# Altium schematic symbol library Microchip Power Management Battery Management.SchLib: 224 symbols (part 1 of 7)
Pins are listed as number, name and electrical type; pins without a type are passive.

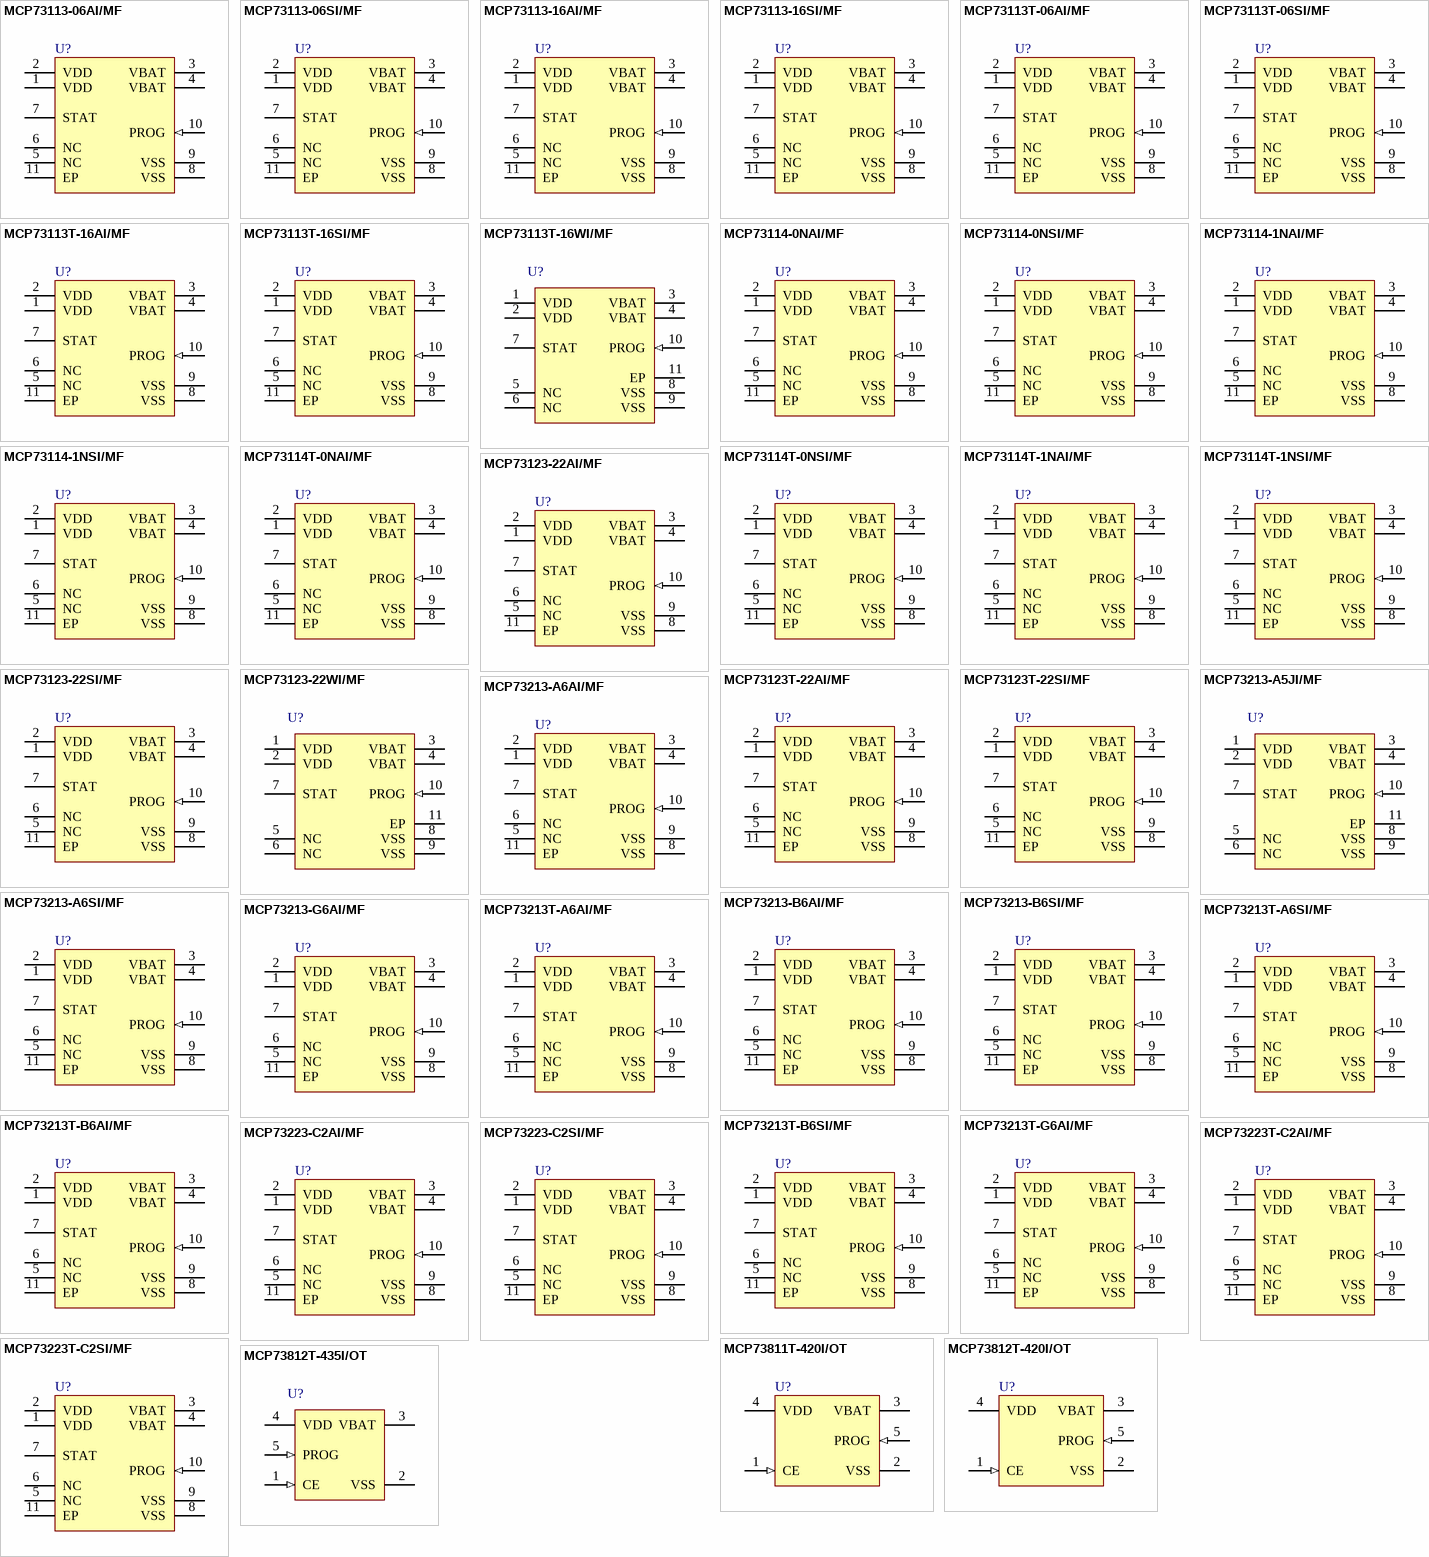
[diagram p0: symbols MCP73113-06AI/MF to MCP73812T-435I/OT]

## MCP73113-06AI/MF
designator U?
Single-Cell Li-Ion / Li-Polymer Battery Charge Management Controller with Input, 6.5V, 10-Pin DFN, Industrial Temperature; Manufacturer: Microchip; PartNumber: MCP73113-06AI/MF; DatasheetVersion: revB, Jul-2009; PackageVersion: revBB, Aug-2009; PackageReference: DFN-MF10; PackageDescription: 10-Lead Plastic Dual Flat, No Lead Package (MF) - 3x3x0.9mm Body [DFN]; Mounting Technology: Surface Mount; ComponentLink1Description: Manufacturer URL; ComponentLink1URL: http://www.microchip.com/; ComponentLink2Description: Datasheet; ComponentLink2URL: http://ww1.microchip.com/downloads/en/DeviceDoc/22183b.pdf; ComponentLink3Description: Package Specification; ComponentLink3URL: http://www.microchip.com/stellent/groups/techpub_sg/documents/packagingspec/en012702.pdf
footprint DFN-MF10 (SON, 10-Leads, Body 3x3mm, Pitch 0.5mm, Microchip Recommended)
pins: 1 VDD (power), 2 VDD (power), 3 VBAT (power), 4 VBAT (power), 5 NC, 6 NC, 7 STAT (oc), 8 VSS (power), 9 VSS (power), 10 PROG (in), 11 EP (power)

## MCP73113-06SI/MF
designator U?
Single-Cell Li-Ion / Li-Polymer Battery Charge Management Controller with Input, 6.5V, 10-Pin DFN, Industrial Temperature; Manufacturer: Microchip; PartNumber: MCP73113-06SI/MF; DatasheetVersion: revB, Jul-2009; PackageVersion: revBB, Aug-2009; PackageReference: DFN-MF10; PackageDescription: 10-Lead Plastic Dual Flat, No Lead Package (MF) - 3x3x0.9mm Body [DFN]; Supplier 1: Digi-Key; Supplier Part Number 1: MCP73113-06SI/MF-ND; Supplier 2: Farnell; Supplier Part Number 2: 1715881; Supplier 3: Newark; Supplier Part Number 3: 11R7579; Supplier 4: Mouser; Supplier Part Number 4: 579-MCP73113-06SI/MF; Mounting Technology: Surface Mount; ComponentLink1Description: Manufacturer URL; ComponentLink1URL: http://www.microchip.com/; ComponentLink2Description: Datasheet; ComponentLink2URL: http://ww1.microchip.com/downloads/en/DeviceDoc/22183b.pdf; ComponentLink3Description: Package Specification; ComponentLink3URL: http://www.microchip.com/stellent/groups/techpub_sg/documents/packagingspec/en012702.pdf
footprint DFN-MF10 (SON, 10-Leads, Body 3x3mm, Pitch 0.5mm, Microchip Recommended)
pins: 1 VDD (power), 2 VDD (power), 3 VBAT (power), 4 VBAT (power), 5 NC, 6 NC, 7 STAT (oc), 8 VSS (power), 9 VSS (power), 10 PROG (in), 11 EP (power)

## MCP73113-16AI/MF
designator U?
Single-Cell Li-Ion / Li-Polymer Battery Charge Management Controller with Input, 6.5V, 10-Pin DFN, Industrial Temperature; Manufacturer: Microchip; PartNumber: MCP73113-16AI/MF; DatasheetVersion: revB, Jul-2009; PackageVersion: revBB, Aug-2009; PackageReference: DFN-MF10; PackageDescription: 10-Lead Plastic Dual Flat, No Lead Package (MF) - 3x3x0.9mm Body [DFN]; Mounting Technology: Surface Mount; ComponentLink1Description: Manufacturer URL; ComponentLink1URL: http://www.microchip.com/; ComponentLink2Description: Datasheet; ComponentLink2URL: http://ww1.microchip.com/downloads/en/DeviceDoc/22183b.pdf; ComponentLink3Description: Package Specification; ComponentLink3URL: http://www.microchip.com/stellent/groups/techpub_sg/documents/packagingspec/en012702.pdf
footprint DFN-MF10 (SON, 10-Leads, Body 3x3mm, Pitch 0.5mm, Microchip Recommended)
pins: 1 VDD (power), 2 VDD (power), 3 VBAT (power), 4 VBAT (power), 5 NC, 6 NC, 7 STAT (oc), 8 VSS (power), 9 VSS (power), 10 PROG (in), 11 EP (power)

## MCP73113-16SI/MF
designator U?
Single-Cell Li-Ion / Li-Polymer Battery Charge Management Controller with Input, 6.5V, 10-Pin DFN, Industrial Temperature; Manufacturer: Microchip; PartNumber: MCP73113-16SI/MF; DatasheetVersion: revB, Jul-2009; PackageVersion: revBB, Aug-2009; PackageReference: DFN-MF10; PackageDescription: 10-Lead Plastic Dual Flat, No Lead Package (MF) - 3x3x0.9mm Body [DFN]; Supplier 1: Digi-Key; Supplier Part Number 1: MCP73113-16SI/MF-ND; Supplier 2: Mouser; Supplier Part Number 2: 579-MCP73113-16SI/MF; Mounting Technology: Surface Mount; ComponentLink1Description: Manufacturer URL; ComponentLink1URL: http://www.microchip.com/; ComponentLink2Description: Datasheet; ComponentLink2URL: http://ww1.microchip.com/downloads/en/DeviceDoc/22183b.pdf; ComponentLink3Description: Package Specification; ComponentLink3URL: http://www.microchip.com/stellent/groups/techpub_sg/documents/packagingspec/en012702.pdf
footprint DFN-MF10 (SON, 10-Leads, Body 3x3mm, Pitch 0.5mm, Microchip Recommended)
pins: 1 VDD (power), 2 VDD (power), 3 VBAT (power), 4 VBAT (power), 5 NC, 6 NC, 7 STAT (oc), 8 VSS (power), 9 VSS (power), 10 PROG (in), 11 EP (power)

## MCP73113T-06AI/MF
designator U?
Single-Cell Li-Ion / Li-Polymer Battery Charge Management Controller with Input, 6.5V, 10-Pin DFN, Industrial Temperature, Tape and Reel; Manufacturer: Microchip; PartNumber: MCP73113T-06AI/MF; DatasheetVersion: revB, Jul-2009; PackageVersion: revBB, Aug-2009; PackageReference: DFN-MF10; PackageDescription: 10-Lead Plastic Dual Flat, No Lead Package (MF) - 3x3x0.9mm Body [DFN]; Mounting Technology: Surface Mount; ComponentLink1Description: Manufacturer URL; ComponentLink1URL: http://www.microchip.com/; ComponentLink2Description: Datasheet; ComponentLink2URL: http://ww1.microchip.com/downloads/en/DeviceDoc/22183b.pdf; ComponentLink3Description: Package Specification; ComponentLink3URL: http://www.microchip.com/stellent/groups/techpub_sg/documents/packagingspec/en012702.pdf
footprint DFN-MF10 (SON, 10-Leads, Body 3x3mm, Pitch 0.5mm, Microchip Recommended)
pins: 1 VDD (power), 2 VDD (power), 3 VBAT (power), 4 VBAT (power), 5 NC, 6 NC, 7 STAT (oc), 8 VSS (power), 9 VSS (power), 10 PROG (in), 11 EP (power)

## MCP73113T-06SI/MF
designator U?
Single-Cell Li-Ion / Li-Polymer Battery Charge Management Controller with Input, 6.5V, 10-Pin DFN, Industrial Temperature, Tape and Reel; Manufacturer: Microchip; PartNumber: MCP73113T-06SI/MF; DatasheetVersion: revB, Jul-2009; PackageVersion: revBB, Aug-2009; PackageReference: DFN-MF10; PackageDescription: 10-Lead Plastic Dual Flat, No Lead Package (MF) - 3x3x0.9mm Body [DFN]; Supplier 1: Digi-Key; Supplier Part Number 1: MCP73113T-06SI/MF-ND; Supplier 2: Mouser; Supplier Part Number 2: 579-MCP73113T-06SIMF; Mounting Technology: Surface Mount; ComponentLink1Description: Manufacturer URL; ComponentLink1URL: http://www.microchip.com/; ComponentLink2Description: Datasheet; ComponentLink2URL: http://ww1.microchip.com/downloads/en/DeviceDoc/22183b.pdf; ComponentLink3Description: Package Specification; ComponentLink3URL: http://www.microchip.com/stellent/groups/techpub_sg/documents/packagingspec/en012702.pdf
footprint DFN-MF10 (SON, 10-Leads, Body 3x3mm, Pitch 0.5mm, Microchip Recommended)
pins: 1 VDD (power), 2 VDD (power), 3 VBAT (power), 4 VBAT (power), 5 NC, 6 NC, 7 STAT (oc), 8 VSS (power), 9 VSS (power), 10 PROG (in), 11 EP (power)

## MCP73113T-16AI/MF
designator U?
Single-Cell Li-Ion / Li-Polymer Battery Charge Management Controller with Input, 6.5V, 10-Pin DFN, Industrial Temperature, Tape and Reel; Manufacturer: Microchip; PartNumber: MCP73113T-16AI/MF; DatasheetVersion: revB, Jul-2009; PackageVersion: revBB, Aug-2009; PackageReference: DFN-MF10; PackageDescription: 10-Lead Plastic Dual Flat, No Lead Package (MF) - 3x3x0.9mm Body [DFN]; Mounting Technology: Surface Mount; ComponentLink1Description: Manufacturer URL; ComponentLink1URL: http://www.microchip.com/; ComponentLink2Description: Datasheet; ComponentLink2URL: http://ww1.microchip.com/downloads/en/DeviceDoc/22183b.pdf; ComponentLink3Description: Package Specification; ComponentLink3URL: http://www.microchip.com/stellent/groups/techpub_sg/documents/packagingspec/en012702.pdf
footprint DFN-MF10 (SON, 10-Leads, Body 3x3mm, Pitch 0.5mm, Microchip Recommended)
pins: 1 VDD (power), 2 VDD (power), 3 VBAT (power), 4 VBAT (power), 5 NC, 6 NC, 7 STAT (oc), 8 VSS (power), 9 VSS (power), 10 PROG (in), 11 EP (power)

## MCP73113T-16SI/MF
designator U?
Single-Cell Li-Ion / Li-Polymer Battery Charge Management Controller with Input, 6.5V, 10-Pin DFN, Industrial Temperature, Tape and Reel; Manufacturer: Microchip; PartNumber: MCP73113T-16SI/MF; DatasheetVersion: revB, Jul-2009; PackageVersion: revBB, Aug-2009; PackageReference: DFN-MF10; PackageDescription: 10-Lead Plastic Dual Flat, No Lead Package (MF) - 3x3x0.9mm Body [DFN]; Supplier 1: Digi-Key; Supplier Part Number 1: MCP73113T-16SI/MF-ND; Supplier 2: Mouser; Supplier Part Number 2: 579-MCP73113T-16SIMF; Mounting Technology: Surface Mount; ComponentLink1Description: Manufacturer URL; ComponentLink1URL: http://www.microchip.com/; ComponentLink2Description: Datasheet; ComponentLink2URL: http://ww1.microchip.com/downloads/en/DeviceDoc/22183b.pdf; ComponentLink3Description: Package Specification; ComponentLink3URL: http://www.microchip.com/stellent/groups/techpub_sg/documents/packagingspec/en012702.pdf
footprint DFN-MF10 (SON, 10-Leads, Body 3x3mm, Pitch 0.5mm, Microchip Recommended)
pins: 1 VDD (power), 2 VDD (power), 3 VBAT (power), 4 VBAT (power), 5 NC, 6 NC, 7 STAT (oc), 8 VSS (power), 9 VSS (power), 10 PROG (in), 11 EP (power)

## MCP73113T-16WI/MF
designator U?
Single-Cell Li-Ion / Li-Polymer Battery Charge Management Controller with Input Overvoltage Protection, 0.5% Voltage Regulation Accuracy, 4 to 16 V Vcc, -40 to 85 degC, 10-pin DFN (MF10), Tape and Reel; Manufacturer: Microchip; PartNumber: MCP73113T-16WI/MF; DatasheetVersion: Rev. C; PackageVersion: C04-063C; PackageReference: DFN-MF10; PackageDescription: 10-Lead Plastic Dual Flat, No Lead Package, 3 x 3 mm Body, 0.5 mm Pitch; Mounting Technology: Surface Mount; ComponentLink1Description: Manufacturer URL; ComponentLink1URL: http://www.microchip.com; ComponentLink2Description: Datasheet; ComponentLink2URL: http://ww1.microchip.com/downloads/en/DeviceDoc/22183c.pdf; ComponentLink3Description: Package Specification; ComponentLink3URL: http://www.microchip.com/stellent/groups/techpub_sg/documents/packagingspec/en012702.pdf; ComponentLink4Description: Product URL; ComponentLink4URL: http://www.microchip.com/MCP73113
footprint MCHP-DFN-MF10_V (SON, 10-Leads, Body 3x3mm, Pitch 0.5mm, Thermal Pad 1.55x2.48mm)
pins: 1 VDD (power) "Battery Management Input Supply", 2 VDD (power) "Battery Management Input Supply", 3 VBAT (power) "Battery Charge Control Output", 4 VBAT (power) "Battery Charge Control Output", 5 NC "No Connection", 6 NC "No Connection", 7 STAT (hiz) "Battery Charge Status Output", 8 VSS (power) "Battery Management 0V Reference", 9 VSS (power) "Battery Management 0V Reference", 10 PROG (in) "Battery Charge Current Regulation Program and Charge Control Enable", 11 EP "Exposed Pad"

## MCP73114-0NAI/MF
designator U?
Single-Cell Li-Ion / Li-Polymer Battery Charge Management Controller with Input, 5.8V, 10-Pin DFN, Industrial Temperature; Manufacturer: Microchip; PartNumber: MCP73114-0NAI/MF; DatasheetVersion: revB, Jul-2009; PackageVersion: revBB, Aug-2009; PackageReference: DFN-MF10; PackageDescription: 10-Lead Plastic Dual Flat, No Lead Package (MF) - 3x3x0.9mm Body [DFN]; Mounting Technology: Surface Mount; ComponentLink1Description: Manufacturer URL; ComponentLink1URL: http://www.microchip.com/; ComponentLink2Description: Datasheet; ComponentLink2URL: http://ww1.microchip.com/downloads/en/DeviceDoc/22183b.pdf; ComponentLink3Description: Package Specification; ComponentLink3URL: http://www.microchip.com/stellent/groups/techpub_sg/documents/packagingspec/en012702.pdf
footprint DFN-MF10 (SON, 10-Leads, Body 3x3mm, Pitch 0.5mm, Microchip Recommended)
pins: 1 VDD (power), 2 VDD (power), 3 VBAT (power), 4 VBAT (power), 5 NC, 6 NC, 7 STAT (oc), 8 VSS (power), 9 VSS (power), 10 PROG (in), 11 EP (power)

## MCP73114-0NSI/MF
designator U?
Single-Cell Li-Ion / Li-Polymer Battery Charge Management Controller with Input, 5.8V, 10-Pin DFN, Industrial Temperature; Manufacturer: Microchip; PartNumber: MCP73114-0NSI/MF; DatasheetVersion: revB, Jul-2009; PackageVersion: revBB, Aug-2009; PackageReference: DFN-MF10; PackageDescription: 10-Lead Plastic Dual Flat, No Lead Package (MF) - 3x3x0.9mm Body [DFN]; Supplier 1: Digi-Key; Supplier Part Number 1: MCP73114-0NSI/MF-ND; Supplier 2: Farnell; Supplier Part Number 2: 1800228; Supplier 3: Newark; Supplier Part Number 3: 15R2041; Supplier 4: Mouser; Supplier Part Number 4: 579-MCP73114-0NSI/MF; Mounting Technology: Surface Mount; ComponentLink1Description: Manufacturer URL; ComponentLink1URL: http://www.microchip.com/; ComponentLink2Description: Datasheet; ComponentLink2URL: http://ww1.microchip.com/downloads/en/DeviceDoc/22183b.pdf; ComponentLink3Description: Package Specification; ComponentLink3URL: http://www.microchip.com/stellent/groups/techpub_sg/documents/packagingspec/en012702.pdf
footprint DFN-MF10 (SON, 10-Leads, Body 3x3mm, Pitch 0.5mm, Microchip Recommended)
pins: 1 VDD (power), 2 VDD (power), 3 VBAT (power), 4 VBAT (power), 5 NC, 6 NC, 7 STAT (oc), 8 VSS (power), 9 VSS (power), 10 PROG (in), 11 EP (power)

## MCP73114-1NAI/MF
designator U?
Single-Cell Li-Ion / Li-Polymer Battery Charge Management Controller with Input, 5.8V, 10-Pin DFN, Industrial Temperature; Manufacturer: Microchip; PartNumber: MCP73114-1NAI/MF; DatasheetVersion: revB, Jul-2009; PackageVersion: revBB, Aug-2009; PackageReference: DFN-MF10; PackageDescription: 10-Lead Plastic Dual Flat, No Lead Package (MF) - 3x3x0.9mm Body [DFN]; Mounting Technology: Surface Mount; ComponentLink1Description: Manufacturer URL; ComponentLink1URL: http://www.microchip.com/; ComponentLink2Description: Datasheet; ComponentLink2URL: http://ww1.microchip.com/downloads/en/DeviceDoc/22183b.pdf; ComponentLink3Description: Package Specification; ComponentLink3URL: http://www.microchip.com/stellent/groups/techpub_sg/documents/packagingspec/en012702.pdf
footprint DFN-MF10 (SON, 10-Leads, Body 3x3mm, Pitch 0.5mm, Microchip Recommended)
pins: 1 VDD (power), 2 VDD (power), 3 VBAT (power), 4 VBAT (power), 5 NC, 6 NC, 7 STAT (oc), 8 VSS (power), 9 VSS (power), 10 PROG (in), 11 EP (power)

## MCP73114-1NSI/MF
designator U?
Single-Cell Li-Ion / Li-Polymer Battery Charge Management Controller with Input, 5.8V, 10-Pin DFN, Industrial Temperature; Manufacturer: Microchip; PartNumber: MCP73114-1NSI/MF; DatasheetVersion: revB, Jul-2009; PackageVersion: revBB, Aug-2009; PackageReference: DFN-MF10; PackageDescription: 10-Lead Plastic Dual Flat, No Lead Package (MF) - 3x3x0.9mm Body [DFN]; Supplier 1: Digi-Key; Supplier Part Number 1: MCP73114-1NSI/MF-ND; Supplier 2: Mouser; Supplier Part Number 2: 579-MCP73114-1NSI/MF; Mounting Technology: Surface Mount; ComponentLink1Description: Manufacturer URL; ComponentLink1URL: http://www.microchip.com/; ComponentLink2Description: Datasheet; ComponentLink2URL: http://ww1.microchip.com/downloads/en/DeviceDoc/22183b.pdf; ComponentLink3Description: Package Specification; ComponentLink3URL: http://www.microchip.com/stellent/groups/techpub_sg/documents/packagingspec/en012702.pdf
footprint DFN-MF10 (SON, 10-Leads, Body 3x3mm, Pitch 0.5mm, Microchip Recommended)
pins: 1 VDD (power), 2 VDD (power), 3 VBAT (power), 4 VBAT (power), 5 NC, 6 NC, 7 STAT (oc), 8 VSS (power), 9 VSS (power), 10 PROG (in), 11 EP (power)

## MCP73114T-0NAI/MF
designator U?
Single-Cell Li-Ion / Li-Polymer Battery Charge Management Controller with Input, 5.8V, 10-Pin DFN, Industrial Temperature, Tape and Reel; Manufacturer: Microchip; PartNumber: MCP73114T-0NAI/MF; DatasheetVersion: revB, Jul-2009; PackageVersion: revBB, Aug-2009; PackageReference: DFN-MF10; PackageDescription: 10-Lead Plastic Dual Flat, No Lead Package (MF) - 3x3x0.9mm Body [DFN]; Mounting Technology: Surface Mount; ComponentLink1Description: Manufacturer URL; ComponentLink1URL: http://www.microchip.com/; ComponentLink2Description: Datasheet; ComponentLink2URL: http://ww1.microchip.com/downloads/en/DeviceDoc/22183b.pdf; ComponentLink3Description: Package Specification; ComponentLink3URL: http://www.microchip.com/stellent/groups/techpub_sg/documents/packagingspec/en012702.pdf
footprint DFN-MF10 (SON, 10-Leads, Body 3x3mm, Pitch 0.5mm, Microchip Recommended)
pins: 1 VDD (power), 2 VDD (power), 3 VBAT (power), 4 VBAT (power), 5 NC, 6 NC, 7 STAT (oc), 8 VSS (power), 9 VSS (power), 10 PROG (in), 11 EP (power)

## MCP73114T-0NSI/MF
designator U?
Single-Cell Li-Ion / Li-Polymer Battery Charge Management Controller with Input, 5.8V, 10-Pin DFN, Industrial Temperature, Tape and Reel; Manufacturer: Microchip; PartNumber: MCP73114T-0NSI/MF; DatasheetVersion: revB, Jul-2009; PackageVersion: revBB, Aug-2009; PackageReference: DFN-MF10; PackageDescription: 10-Lead Plastic Dual Flat, No Lead Package (MF) - 3x3x0.9mm Body [DFN]; Supplier 1: Digi-Key; Supplier Part Number 1: MCP73114T-0NSI/MF-ND; Supplier 2: Mouser; Supplier Part Number 2: 579-MCP73114T-0NSIMF; Mounting Technology: Surface Mount; ComponentLink1Description: Manufacturer URL; ComponentLink1URL: http://www.microchip.com/; ComponentLink2Description: Datasheet; ComponentLink2URL: http://ww1.microchip.com/downloads/en/DeviceDoc/22183b.pdf; ComponentLink3Description: Package Specification; ComponentLink3URL: http://www.microchip.com/stellent/groups/techpub_sg/documents/packagingspec/en012702.pdf
footprint DFN-MF10 (SON, 10-Leads, Body 3x3mm, Pitch 0.5mm, Microchip Recommended)
pins: 1 VDD (power), 2 VDD (power), 3 VBAT (power), 4 VBAT (power), 5 NC, 6 NC, 7 STAT (oc), 8 VSS (power), 9 VSS (power), 10 PROG (in), 11 EP (power)

## MCP73114T-1NAI/MF
designator U?
Single-Cell Li-Ion / Li-Polymer Battery Charge Management Controller with Input, 5.8V, 10-Pin DFN, Industrial Temperature, Tape and Reel; Manufacturer: Microchip; PartNumber: MCP73114T-1NAI/MF; DatasheetVersion: revB, Jul-2009; PackageVersion: revBB, Aug-2009; PackageReference: DFN-MF10; PackageDescription: 10-Lead Plastic Dual Flat, No Lead Package (MF) - 3x3x0.9mm Body [DFN]; Mounting Technology: Surface Mount; ComponentLink1Description: Manufacturer URL; ComponentLink1URL: http://www.microchip.com/; ComponentLink2Description: Datasheet; ComponentLink2URL: http://ww1.microchip.com/downloads/en/DeviceDoc/22183b.pdf; ComponentLink3Description: Package Specification; ComponentLink3URL: http://www.microchip.com/stellent/groups/techpub_sg/documents/packagingspec/en012702.pdf
footprint DFN-MF10 (SON, 10-Leads, Body 3x3mm, Pitch 0.5mm, Microchip Recommended)
pins: 1 VDD (power), 2 VDD (power), 3 VBAT (power), 4 VBAT (power), 5 NC, 6 NC, 7 STAT (oc), 8 VSS (power), 9 VSS (power), 10 PROG (in), 11 EP (power)

## MCP73114T-1NSI/MF
designator U?
Single-Cell Li-Ion / Li-Polymer Battery Charge Management Controller with Input, 5.8V, 10-Pin DFN, Industrial Temperature, Tape and Reel; Manufacturer: Microchip; PartNumber: MCP73114T-1NSI/MF; DatasheetVersion: revB, Jul-2009; PackageVersion: revBB, Aug-2009; PackageReference: DFN-MF10; PackageDescription: 10-Lead Plastic Dual Flat, No Lead Package (MF) - 3x3x0.9mm Body [DFN]; Supplier 1: Digi-Key; Supplier Part Number 1: MCP73114T-1NSI/MF-ND; Supplier 2: Mouser; Supplier Part Number 2: 579-MCP73114T-1NSIMF; Mounting Technology: Surface Mount; ComponentLink1Description: Manufacturer URL; ComponentLink1URL: http://www.microchip.com/; ComponentLink2Description: Datasheet; ComponentLink2URL: http://ww1.microchip.com/downloads/en/DeviceDoc/22183b.pdf; ComponentLink3Description: Package Specification; ComponentLink3URL: http://www.microchip.com/stellent/groups/techpub_sg/documents/packagingspec/en012702.pdf
footprint DFN-MF10 (SON, 10-Leads, Body 3x3mm, Pitch 0.5mm, Microchip Recommended)
pins: 1 VDD (power), 2 VDD (power), 3 VBAT (power), 4 VBAT (power), 5 NC, 6 NC, 7 STAT (oc), 8 VSS (power), 9 VSS (power), 10 PROG (in), 11 EP (power)

## MCP73123-22AI/MF
designator U?
Lithium Iron Phosphate (LiFePO4) Battery Charge Management Controller with Input OVP, 6.5V, 10-Pin DFN, Industrial Temperature; Manufacturer: Microchip; PartNumber: MCP73123-22AI/MF; DatasheetVersion: revA, Jul-2009; PackageVersion: revBB, Aug-2009; PackageReference: DFN-MF10; PackageDescription: 10-Lead Plastic Dual Flat, No Lead Package (MF) - 3x3x0.9mm Body [DFN]; Mounting Technology: Surface Mount; ComponentLink1Description: Manufacturer URL; ComponentLink1URL: http://www.microchip.com/; ComponentLink2Description: Datasheet; ComponentLink2URL: http://ww1.microchip.com/downloads/en/DeviceDoc/22191a.pdf; ComponentLink3Description: Package Specification; ComponentLink3URL: http://www.microchip.com/stellent/groups/techpub_sg/documents/packagingspec/en012702.pdf
footprint DFN-MF10 (SON, 10-Leads, Body 3x3mm, Pitch 0.5mm, Microchip Recommended)
pins: 1 VDD (power), 2 VDD (power), 3 VBAT (power), 4 VBAT (power), 5 NC, 6 NC, 7 STAT (oc), 8 VSS (power), 9 VSS (power), 10 PROG (in), 11 EP (power)

## MCP73123-22SI/MF
designator U?
Lithium Iron Phosphate (LiFePO4) Battery Charge Management Controller with Input OVP, 6.5V, 10-Pin DFN, Industrial Temperature; Manufacturer: Microchip; PartNumber: MCP73123-22SI/MF; DatasheetVersion: revA, Jul-2009; PackageVersion: revBB, Aug-2009; PackageReference: DFN-MF10; PackageDescription: 10-Lead Plastic Dual Flat, No Lead Package (MF) - 3x3x0.9mm Body [DFN]; Supplier 1: Digi-Key; Supplier Part Number 1: MCP73123-22SI/MF-ND; Supplier 2: Farnell; Supplier Part Number 2: 1800229; Supplier 3: Newark; Supplier Part Number 3: 14R8876; Supplier 4: Mouser; Supplier Part Number 4: 579-MCP73123-22SI/MF; Mounting Technology: Surface Mount; ComponentLink1Description: Manufacturer URL; ComponentLink1URL: http://www.microchip.com/; ComponentLink2Description: Datasheet; ComponentLink2URL: http://ww1.microchip.com/downloads/en/DeviceDoc/22191a.pdf; ComponentLink3Description: Package Specification; ComponentLink3URL: http://www.microchip.com/stellent/groups/techpub_sg/documents/packagingspec/en012702.pdf
footprint DFN-MF10 (SON, 10-Leads, Body 3x3mm, Pitch 0.5mm, Microchip Recommended)
pins: 1 VDD (power), 2 VDD (power), 3 VBAT (power), 4 VBAT (power), 5 NC, 6 NC, 7 STAT (oc), 8 VSS (power), 9 VSS (power), 10 PROG (in), 11 EP (power)

## MCP73123-22WI/MF
designator U?
Lithium Iron Phosphate (LiFePO4) Battery Charge Management Controller with Input Overvoltage Protection, 0.5% Voltage Regulation Accuracy, 4 to 16 V Vcc, -40 to 85 degC, 10-pin DFN (MF10), Tube; Manufacturer: Microchip; PartNumber: MCP73123-22WI/MF; DatasheetVersion: Rev. D; PackageVersion: C04-063C; PackageReference: DFN-MF10; PackageDescription: 10-Lead Plastic Dual Flat, No Lead Package, 3 x 3 mm Body, 0.5 mm Pitch; Mounting Technology: Surface Mount; ComponentLink1Description: Manufacturer URL; ComponentLink1URL: http://www.microchip.com; ComponentLink2Description: Datasheet; ComponentLink2URL: http://ww1.microchip.com/downloads/en/DeviceDoc/22191D.pdf; ComponentLink3Description: Package Specification; ComponentLink3URL: http://www.microchip.com/stellent/groups/techpub_sg/documents/packagingspec/en012702.pdf; ComponentLink4Description: Product URL; ComponentLink4URL: http://www.microchip.com/MCP73123
footprint MCHP-DFN-MF10_V (SON, 10-Leads, Body 3x3mm, Pitch 0.5mm, Thermal Pad 1.55x2.48mm)
pins: 1 VDD (power) "Battery Management Input Supply", 2 VDD (power) "Battery Management Input Supply", 3 VBAT (power) "Battery Charge Control Output", 4 VBAT (power) "Battery Charge Control Output", 5 NC "No Connection", 6 NC "No Connection", 7 STAT (hiz) "Battery Charge Status Output", 8 VSS (power) "Battery Management 0V Reference", 9 VSS (power) "Battery Management 0V Reference", 10 PROG (in) "Battery Charge Current Regulation Program and Charge Control Enable", 11 EP (power) "Exposed Pad"

## MCP73123T-22AI/MF
designator U?
Lithium Iron Phosphate (LiFePO4) Battery Charge Management Controller with Input OVP, 6.5V, 10-Pin DFN, Industrial Temperature, Tape and Reel; Manufacturer: Microchip; PartNumber: MCP73123T-22AI/MF; DatasheetVersion: revA, Jul-2009; PackageVersion: revBB, Aug-2009; PackageReference: DFN-MF10; PackageDescription: 10-Lead Plastic Dual Flat, No Lead Package (MF) - 3x3x0.9mm Body [DFN]; Mounting Technology: Surface Mount; ComponentLink1Description: Manufacturer URL; ComponentLink1URL: http://www.microchip.com/; ComponentLink2Description: Datasheet; ComponentLink2URL: http://ww1.microchip.com/downloads/en/DeviceDoc/22191a.pdf; ComponentLink3Description: Package Specification; ComponentLink3URL: http://www.microchip.com/stellent/groups/techpub_sg/documents/packagingspec/en012702.pdf
footprint DFN-MF10 (SON, 10-Leads, Body 3x3mm, Pitch 0.5mm, Microchip Recommended)
pins: 1 VDD (power), 2 VDD (power), 3 VBAT (power), 4 VBAT (power), 5 NC, 6 NC, 7 STAT (oc), 8 VSS (power), 9 VSS (power), 10 PROG (in), 11 EP (power)

## MCP73123T-22SI/MF
designator U?
Lithium Iron Phosphate (LiFePO4) Battery Charge Management Controller with Input OVP, 6.5V, 10-Pin DFN, Industrial Temperature, Tape and Reel; Manufacturer: Microchip; PartNumber: MCP73123T-22SI/MF; DatasheetVersion: revA, Jul-2009; PackageVersion: revBB, Aug-2009; PackageReference: DFN-MF10; PackageDescription: 10-Lead Plastic Dual Flat, No Lead Package (MF) - 3x3x0.9mm Body [DFN]; Supplier 1: Digi-Key; Supplier Part Number 1: MCP73123T-22SI/MF-ND; Supplier 2: Newark; Supplier Part Number 2: 14R8877; Supplier 3: Mouser; Supplier Part Number 3: 579-MCP73123T-22SIMF; Mounting Technology: Surface Mount; ComponentLink1Description: Manufacturer URL; ComponentLink1URL: http://www.microchip.com/; ComponentLink2Description: Datasheet; ComponentLink2URL: http://ww1.microchip.com/downloads/en/DeviceDoc/22191a.pdf; ComponentLink3Description: Package Specification; ComponentLink3URL: http://www.microchip.com/stellent/groups/techpub_sg/documents/packagingspec/en012702.pdf
footprint DFN-MF10 (SON, 10-Leads, Body 3x3mm, Pitch 0.5mm, Microchip Recommended)
pins: 1 VDD (power), 2 VDD (power), 3 VBAT (power), 4 VBAT (power), 5 NC, 6 NC, 7 STAT (oc), 8 VSS (power), 9 VSS (power), 10 PROG (in), 11 EP (power)

## MCP73213-A5JI/MF
designator U?
Dual-Cell Li-Ion / Li-Polymer Battery Charge Management Controller with Input Overvoltage Protection, 0.6% Voltage Regulation Accuracy, 4 to 16 V Vcc, -40 to 85 degC, 10-pin DFN (MF10), Tube; Manufacturer: Microchip; PartNumber: MCP73213-A5JI/MF; DatasheetVersion: Rev. B; PackageVersion: C04-063C; PackageReference: DFN-MF10; PackageDescription: 10-Lead Plastic Dual Flat, No Lead Package, 3 x 3 mm Body, 0.5 mm Pitch; Mounting Technology: Surface Mount; ComponentLink1Description: Manufacturer URL; ComponentLink1URL: http://www.microchip.com; ComponentLink2Description: Datasheet; ComponentLink2URL: http://ww1.microchip.com/downloads/en/DeviceDoc/22190b.pdf; ComponentLink3Description: Package Specification; ComponentLink3URL: http://www.microchip.com/stellent/groups/techpub_sg/documents/packagingspec/en012702.pdf; ComponentLink4Description: Product URL; ComponentLink4URL: http://www.microchip.com/MCP73213
footprint MCHP-DFN-MF10_V (SON, 10-Leads, Body 3x3mm, Pitch 0.5mm, Thermal Pad 1.55x2.48mm)
pins: 1 VDD (power) "Battery Management Input Supply", 2 VDD (power) "Battery Management Input Supply", 3 VBAT (power) "Battery Charge Control Output", 4 VBAT (power) "Battery Charge Control Output", 5 NC "No Connection", 6 NC "No Connection", 7 STAT (hiz) "Battery Charge Status Output", 8 VSS (power) "Battery Management 0V Reference", 9 VSS (power) "Battery Management 0V Reference", 10 PROG (in) "Battery Charge Current Regulation Program and Charge Control Enable", 11 EP "Exposed Pad"

## MCP73213-A6AI/MF
designator U?
Dual-Cell Li-Ion / Li-Polymer Battery Charge Management Controller with OVP, 13V, 10-Pin DFN, Industrial Temperature; Manufacturer: Microchip; PartNumber: MCP73213-A6AI/MF; DatasheetVersion: revA, Jul-2009; PackageVersion: revBB, Aug-2009; PackageReference: DFN-MF10; PackageDescription: 10-Lead Plastic Dual Flat, No Lead Package (MF) - 3x3x0.9mm Body [DFN]; Mounting Technology: Surface Mount; ComponentLink1Description: Manufacturer URL; ComponentLink1URL: http://www.microchip.com/; ComponentLink2Description: Datasheet; ComponentLink2URL: http://ww1.microchip.com/downloads/en/DeviceDoc/22190a.pdf; ComponentLink3Description: Package Specification; ComponentLink3URL: http://www.microchip.com/stellent/groups/techpub_sg/documents/packagingspec/en012702.pdf
footprint DFN-MF10 (SON, 10-Leads, Body 3x3mm, Pitch 0.5mm, Microchip Recommended)
pins: 1 VDD (power), 2 VDD (power), 3 VBAT (power), 4 VBAT (power), 5 NC, 6 NC, 7 STAT (oc), 8 VSS (power), 9 VSS (power), 10 PROG (in), 11 EP (power)

## MCP73213-A6SI/MF
designator U?
Dual-Cell Li-Ion / Li-Polymer Battery Charge Management Controller with OVP, 13V, 10-Pin DFN, Industrial Temperature; Manufacturer: Microchip; PartNumber: MCP73213-A6SI/MF; DatasheetVersion: revA, Jul-2009; PackageVersion: revBB, Aug-2009; PackageReference: DFN-MF10; PackageDescription: 10-Lead Plastic Dual Flat, No Lead Package (MF) - 3x3x0.9mm Body [DFN]; Supplier 1: Digi-Key; Supplier Part Number 1: MCP73213-A6SI/MF-ND; Supplier 2: Farnell; Supplier Part Number 2: 1800230; Supplier 3: Newark; Supplier Part Number 3: 14R8878; Supplier 4: Mouser; Supplier Part Number 4: 579-MCP73213-A6SI/MF; Mounting Technology: Surface Mount; ComponentLink1Description: Manufacturer URL; ComponentLink1URL: http://www.microchip.com/; ComponentLink2Description: Datasheet; ComponentLink2URL: http://ww1.microchip.com/downloads/en/DeviceDoc/22190a.pdf; ComponentLink3Description: Package Specification; ComponentLink3URL: http://www.microchip.com/stellent/groups/techpub_sg/documents/packagingspec/en012702.pdf
footprint DFN-MF10 (SON, 10-Leads, Body 3x3mm, Pitch 0.5mm, Microchip Recommended)
pins: 1 VDD (power), 2 VDD (power), 3 VBAT (power), 4 VBAT (power), 5 NC, 6 NC, 7 STAT (oc), 8 VSS (power), 9 VSS (power), 10 PROG (in), 11 EP (power)

## MCP73213-B6AI/MF
designator U?
Dual-Cell Li-Ion / Li-Polymer Battery Charge Management Controller with OVP, 13V, 10-Pin DFN, Industrial Temperature; Manufacturer: Microchip; PartNumber: MCP73213-B6AI/MF; DatasheetVersion: revA, Jul-2009; PackageVersion: revBB, Aug-2009; PackageReference: DFN-MF10; PackageDescription: 10-Lead Plastic Dual Flat, No Lead Package (MF) - 3x3x0.9mm Body [DFN]; Mounting Technology: Surface Mount; ComponentLink1Description: Manufacturer URL; ComponentLink1URL: http://www.microchip.com/; ComponentLink2Description: Datasheet; ComponentLink2URL: http://ww1.microchip.com/downloads/en/DeviceDoc/22190a.pdf; ComponentLink3Description: Package Specification; ComponentLink3URL: http://www.microchip.com/stellent/groups/techpub_sg/documents/packagingspec/en012702.pdf
footprint DFN-MF10 (SON, 10-Leads, Body 3x3mm, Pitch 0.5mm, Microchip Recommended)
pins: 1 VDD (power), 2 VDD (power), 3 VBAT (power), 4 VBAT (power), 5 NC, 6 NC, 7 STAT (oc), 8 VSS (power), 9 VSS (power), 10 PROG (in), 11 EP (power)

## MCP73213-B6SI/MF
designator U?
Dual-Cell Li-Ion / Li-Polymer Battery Charge Management Controller with OVP, 13V, 10-Pin DFN, Industrial Temperature; Manufacturer: Microchip; PartNumber: MCP73213-B6SI/MF; DatasheetVersion: revA, Jul-2009; PackageVersion: revBB, Aug-2009; PackageReference: DFN-MF10; PackageDescription: 10-Lead Plastic Dual Flat, No Lead Package (MF) - 3x3x0.9mm Body [DFN]; Supplier 1: Digi-Key; Supplier Part Number 1: MCP73213-B6SI/MF-ND; Supplier 2: Farnell; Supplier Part Number 2: 1800232; Supplier 3: Newark; Supplier Part Number 3: 14R8879; Supplier 4: Mouser; Supplier Part Number 4: 579-MCP73213-B6SI/MF; Mounting Technology: Surface Mount; ComponentLink1Description: Manufacturer URL; ComponentLink1URL: http://www.microchip.com/; ComponentLink2Description: Datasheet; ComponentLink2URL: http://ww1.microchip.com/downloads/en/DeviceDoc/22190a.pdf; ComponentLink3Description: Package Specification; ComponentLink3URL: http://www.microchip.com/stellent/groups/techpub_sg/documents/packagingspec/en012702.pdf
footprint DFN-MF10 (SON, 10-Leads, Body 3x3mm, Pitch 0.5mm, Microchip Recommended)
pins: 1 VDD (power), 2 VDD (power), 3 VBAT (power), 4 VBAT (power), 5 NC, 6 NC, 7 STAT (oc), 8 VSS (power), 9 VSS (power), 10 PROG (in), 11 EP (power)

## MCP73213-G6AI/MF
designator U?
Dual-Cell Li-Ion / Li-Polymer Battery Charge Management Controller with OVP, 13V, 10-Pin DFN, Industrial Temperature; Manufacturer: Microchip; PartNumber: MCP73213-G6AI/MF; DatasheetVersion: revA, Jul-2009; PackageVersion: revBB, Aug-2009; PackageReference: DFN-MF10; PackageDescription: 10-Lead Plastic Dual Flat, No Lead Package (MF) - 3x3x0.9mm Body [DFN]; Mounting Technology: Surface Mount; ComponentLink1Description: Manufacturer URL; ComponentLink1URL: http://www.microchip.com/; ComponentLink2Description: Datasheet; ComponentLink2URL: http://ww1.microchip.com/downloads/en/DeviceDoc/22190a.pdf; ComponentLink3Description: Package Specification; ComponentLink3URL: http://www.microchip.com/stellent/groups/techpub_sg/documents/packagingspec/en012702.pdf
footprint DFN-MF10 (SON, 10-Leads, Body 3x3mm, Pitch 0.5mm, Microchip Recommended)
pins: 1 VDD (power), 2 VDD (power), 3 VBAT (power), 4 VBAT (power), 5 NC, 6 NC, 7 STAT (oc), 8 VSS (power), 9 VSS (power), 10 PROG (in), 11 EP (power)

## MCP73213T-A6AI/MF
designator U?
Dual-Cell Li-Ion / Li-Polymer Battery Charge Management Controller with OVP, 13V, 10-Pin DFN, Industrial Temperature, Tape and Reel; Manufacturer: Microchip; PartNumber: MCP73213T-A6AI/MF; DatasheetVersion: revA, Jul-2009; PackageVersion: revBB, Aug-2009; PackageReference: DFN-MF10; PackageDescription: 10-Lead Plastic Dual Flat, No Lead Package (MF) - 3x3x0.9mm Body [DFN]; Mounting Technology: Surface Mount; ComponentLink1Description: Manufacturer URL; ComponentLink1URL: http://www.microchip.com/; ComponentLink2Description: Datasheet; ComponentLink2URL: http://ww1.microchip.com/downloads/en/DeviceDoc/22190a.pdf; ComponentLink3Description: Package Specification; ComponentLink3URL: http://www.microchip.com/stellent/groups/techpub_sg/documents/packagingspec/en012702.pdf
footprint DFN-MF10 (SON, 10-Leads, Body 3x3mm, Pitch 0.5mm, Microchip Recommended)
pins: 1 VDD (power), 2 VDD (power), 3 VBAT (power), 4 VBAT (power), 5 NC, 6 NC, 7 STAT (oc), 8 VSS (power), 9 VSS (power), 10 PROG (in), 11 EP (power)

## MCP73213T-A6SI/MF
designator U?
Dual-Cell Li-Ion / Li-Polymer Battery Charge Management Controller with OVP, 13V, 10-Pin DFN, Industrial Temperature, Tape and Reel; Manufacturer: Microchip; PartNumber: MCP73213T-A6SI/MF; DatasheetVersion: revA, Jul-2009; PackageVersion: revBB, Aug-2009; PackageReference: DFN-MF10; PackageDescription: 10-Lead Plastic Dual Flat, No Lead Package (MF) - 3x3x0.9mm Body [DFN]; Supplier 1: Digi-Key; Supplier Part Number 1: MCP73213T-A6SI/MF-ND; Supplier 2: Newark; Supplier Part Number 2: 14R8880; Supplier 3: Mouser; Supplier Part Number 3: 579-MCP73213T-A6SIMF; Mounting Technology: Surface Mount; ComponentLink1Description: Manufacturer URL; ComponentLink1URL: http://www.microchip.com/; ComponentLink2Description: Datasheet; ComponentLink2URL: http://ww1.microchip.com/downloads/en/DeviceDoc/22190a.pdf; ComponentLink3Description: Package Specification; ComponentLink3URL: http://www.microchip.com/stellent/groups/techpub_sg/documents/packagingspec/en012702.pdf
footprint DFN-MF10 (SON, 10-Leads, Body 3x3mm, Pitch 0.5mm, Microchip Recommended)
pins: 1 VDD (power), 2 VDD (power), 3 VBAT (power), 4 VBAT (power), 5 NC, 6 NC, 7 STAT (oc), 8 VSS (power), 9 VSS (power), 10 PROG (in), 11 EP (power)

## MCP73213T-B6AI/MF
designator U?
Dual-Cell Li-Ion / Li-Polymer Battery Charge Management Controller with OVP, 13V, 10-Pin DFN, Industrial Temperature, Tape and Reel; Manufacturer: Microchip; PartNumber: MCP73213T-B6AI/MF; DatasheetVersion: revA, Jul-2009; PackageVersion: revBB, Aug-2009; PackageReference: DFN-MF10; PackageDescription: 10-Lead Plastic Dual Flat, No Lead Package (MF) - 3x3x0.9mm Body [DFN]; Mounting Technology: Surface Mount; ComponentLink1Description: Manufacturer URL; ComponentLink1URL: http://www.microchip.com/; ComponentLink2Description: Datasheet; ComponentLink2URL: http://ww1.microchip.com/downloads/en/DeviceDoc/22190a.pdf; ComponentLink3Description: Package Specification; ComponentLink3URL: http://www.microchip.com/stellent/groups/techpub_sg/documents/packagingspec/en012702.pdf
footprint DFN-MF10 (SON, 10-Leads, Body 3x3mm, Pitch 0.5mm, Microchip Recommended)
pins: 1 VDD (power), 2 VDD (power), 3 VBAT (power), 4 VBAT (power), 5 NC, 6 NC, 7 STAT (oc), 8 VSS (power), 9 VSS (power), 10 PROG (in), 11 EP (power)

## MCP73213T-B6SI/MF
designator U?
Dual-Cell Li-Ion / Li-Polymer Battery Charge Management Controller with OVP, 13V, 10-Pin DFN, Industrial Temperature, Tape and Reel; Manufacturer: Microchip; PartNumber: MCP73213T-B6SI/MF; DatasheetVersion: revA, Jul-2009; PackageVersion: revBB, Aug-2009; PackageReference: DFN-MF10; PackageDescription: 10-Lead Plastic Dual Flat, No Lead Package (MF) - 3x3x0.9mm Body [DFN]; Supplier 1: Digi-Key; Supplier Part Number 1: MCP73213T-B6SI/MF-ND; Supplier 2: Mouser; Supplier Part Number 2: 579-MCP73213T-B6SIMF; Mounting Technology: Surface Mount; ComponentLink1Description: Manufacturer URL; ComponentLink1URL: http://www.microchip.com/; ComponentLink2Description: Datasheet; ComponentLink2URL: http://ww1.microchip.com/downloads/en/DeviceDoc/22190a.pdf; ComponentLink3Description: Package Specification; ComponentLink3URL: http://www.microchip.com/stellent/groups/techpub_sg/documents/packagingspec/en012702.pdf
footprint DFN-MF10 (SON, 10-Leads, Body 3x3mm, Pitch 0.5mm, Microchip Recommended)
pins: 1 VDD (power), 2 VDD (power), 3 VBAT (power), 4 VBAT (power), 5 NC, 6 NC, 7 STAT (oc), 8 VSS (power), 9 VSS (power), 10 PROG (in), 11 EP (power)

## MCP73213T-G6AI/MF
designator U?
Dual-Cell Li-Ion / Li-Polymer Battery Charge Management Controller with OVP, 13V, 10-Pin DFN, Industrial Temperature, Tape and Reel; Manufacturer: Microchip; PartNumber: MCP73213T-G6AI/MF; DatasheetVersion: revA, Jul-2009; PackageVersion: revBB, Aug-2009; PackageReference: DFN-MF10; PackageDescription: 10-Lead Plastic Dual Flat, No Lead Package (MF) - 3x3x0.9mm Body [DFN]; Mounting Technology: Surface Mount; ComponentLink1Description: Manufacturer URL; ComponentLink1URL: http://www.microchip.com/; ComponentLink2Description: Datasheet; ComponentLink2URL: http://ww1.microchip.com/downloads/en/DeviceDoc/22190a.pdf; ComponentLink3Description: Package Specification; ComponentLink3URL: http://www.microchip.com/stellent/groups/techpub_sg/documents/packagingspec/en012702.pdf
footprint DFN-MF10 (SON, 10-Leads, Body 3x3mm, Pitch 0.5mm, Microchip Recommended)
pins: 1 VDD (power), 2 VDD (power), 3 VBAT (power), 4 VBAT (power), 5 NC, 6 NC, 7 STAT (oc), 8 VSS (power), 9 VSS (power), 10 PROG (in), 11 EP (power)

## MCP73223-C2AI/MF
designator U?
Lithium Iron Phosphate (LiFePO4) Battery Charge Management Controller with Input OVP, 13V, 10-Pin DFN, Industrial Temperature; Manufacturer: Microchip; PartNumber: MCP73223-C2AI/MF; DatasheetVersion: revA, Jul-2009; PackageVersion: revBB, Aug-2009; PackageReference: DFN-MF10; PackageDescription: 10-Lead Plastic Dual Flat, No Lead Package (MF) - 3x3x0.9mm Body [DFN]; Mounting Technology: Surface Mount; ComponentLink1Description: Manufacturer URL; ComponentLink1URL: http://www.microchip.com/; ComponentLink2Description: Datasheet; ComponentLink2URL: http://ww1.microchip.com/downloads/en/DeviceDoc/22191a.pdf; ComponentLink3Description: Package Specification; ComponentLink3URL: http://www.microchip.com/stellent/groups/techpub_sg/documents/packagingspec/en012702.pdf
footprint DFN-MF10 (SON, 10-Leads, Body 3x3mm, Pitch 0.5mm, Microchip Recommended)
pins: 1 VDD (power), 2 VDD (power), 3 VBAT (power), 4 VBAT (power), 5 NC, 6 NC, 7 STAT (oc), 8 VSS (power), 9 VSS (power), 10 PROG (in), 11 EP (power)

## MCP73223-C2SI/MF
designator U?
Lithium Iron Phosphate (LiFePO4) Battery Charge Management Controller with Input OVP, 13V, 10-Pin DFN, Industrial Temperature; Manufacturer: Microchip; PartNumber: MCP73223-C2SI/MF; DatasheetVersion: revA, Jul-2009; PackageVersion: revBB, Aug-2009; PackageReference: DFN-MF10; PackageDescription: 10-Lead Plastic Dual Flat, No Lead Package (MF) - 3x3x0.9mm Body [DFN]; Supplier 1: Digi-Key; Supplier Part Number 1: MCP73223-C2SI/MF-ND; Supplier 2: Farnell; Supplier Part Number 2: 1800233; Supplier 3: Newark; Supplier Part Number 3: 14R8882; Supplier 4: Mouser; Supplier Part Number 4: 579-MCP73223-C2SI/MF; Mounting Technology: Surface Mount; ComponentLink1Description: Manufacturer URL; ComponentLink1URL: http://www.microchip.com/; ComponentLink2Description: Datasheet; ComponentLink2URL: http://ww1.microchip.com/downloads/en/DeviceDoc/22191a.pdf; ComponentLink3Description: Package Specification; ComponentLink3URL: http://www.microchip.com/stellent/groups/techpub_sg/documents/packagingspec/en012702.pdf
footprint DFN-MF10 (SON, 10-Leads, Body 3x3mm, Pitch 0.5mm, Microchip Recommended)
pins: 1 VDD (power), 2 VDD (power), 3 VBAT (power), 4 VBAT (power), 5 NC, 6 NC, 7 STAT (oc), 8 VSS (power), 9 VSS (power), 10 PROG (in), 11 EP (power)

## MCP73223T-C2AI/MF
designator U?
Lithium Iron Phosphate (LiFePO4) Battery Charge Management Controller with Input OVP, 13V, 10-Pin DFN, Industrial Temperature, Tape and Reel; Manufacturer: Microchip; PartNumber: MCP73223T-C2AI/MF; DatasheetVersion: revA, Jul-2009; PackageVersion: revBB, Aug-2009; PackageReference: DFN-MF10; PackageDescription: 10-Lead Plastic Dual Flat, No Lead Package (MF) - 3x3x0.9mm Body [DFN]; Mounting Technology: Surface Mount; ComponentLink1Description: Manufacturer URL; ComponentLink1URL: http://www.microchip.com/; ComponentLink2Description: Datasheet; ComponentLink2URL: http://ww1.microchip.com/downloads/en/DeviceDoc/22191a.pdf; ComponentLink3Description: Package Specification; ComponentLink3URL: http://www.microchip.com/stellent/groups/techpub_sg/documents/packagingspec/en012702.pdf
footprint DFN-MF10 (SON, 10-Leads, Body 3x3mm, Pitch 0.5mm, Microchip Recommended)
pins: 1 VDD (power), 2 VDD (power), 3 VBAT (power), 4 VBAT (power), 5 NC, 6 NC, 7 STAT (oc), 8 VSS (power), 9 VSS (power), 10 PROG (in), 11 EP (power)

## MCP73223T-C2SI/MF
designator U?
Lithium Iron Phosphate (LiFePO4) Battery Charge Management Controller with Input OVP, 13V, 10-Pin DFN, Industrial Temperature, Tape and Reel; Manufacturer: Microchip; PartNumber: MCP73223T-C2SI/MF; DatasheetVersion: revA, Jul-2009; PackageVersion: revBB, Aug-2009; PackageReference: DFN-MF10; PackageDescription: 10-Lead Plastic Dual Flat, No Lead Package (MF) - 3x3x0.9mm Body [DFN]; Supplier 1: Digi-Key; Supplier Part Number 1: MCP73223T-C2SI/MF-ND; Supplier 2: Newark; Supplier Part Number 2: 14R8883; Supplier 3: Mouser; Supplier Part Number 3: 579-MCP73223T-C2SIMF; Mounting Technology: Surface Mount; ComponentLink1Description: Manufacturer URL; ComponentLink1URL: http://www.microchip.com/; ComponentLink2Description: Datasheet; ComponentLink2URL: http://ww1.microchip.com/downloads/en/DeviceDoc/22191a.pdf; ComponentLink3Description: Package Specification; ComponentLink3URL: http://www.microchip.com/stellent/groups/techpub_sg/documents/packagingspec/en012702.pdf
footprint DFN-MF10 (SON, 10-Leads, Body 3x3mm, Pitch 0.5mm, Microchip Recommended)
pins: 1 VDD (power), 2 VDD (power), 3 VBAT (power), 4 VBAT (power), 5 NC, 6 NC, 7 STAT (oc), 8 VSS (power), 9 VSS (power), 10 PROG (in), 11 EP (power)

## MCP73811T-420I/OT
designator U?
Simple, Miniature Single-Cell, Fully Integrated Li-Ion/Li-Polymer Charge Management Controller, 4.2V, 5-Pin SOT-23, Industrial Temperature, Tape and Reel; Manufacturer: Microchip; PartNumber: MCP73811T-420I/OT; DatasheetVersion: revB, Sep-2007; PackageVersion: revBB, Aug-2009; PackageReference: SOT-23-OT5; PackageDescription: 5-Lead Plastic Small Outline Transistor (OT) [SOT-23]; Supplier 1: Digi-Key; Supplier Part Number 1: MCP73811T-420I/OTTR-ND; Supplier 2: Digi-Key; Supplier Part Number 2: MCP73811T-420I/OTCT-ND; Supplier 3: Digi-Key; Supplier Part Number 3: MCP73811T-420I/OTDKR-ND; Supplier 4: Farnell; Supplier Part Number 4: 1439477; Supplier 5: Newark; Supplier Part Number 5: 27M0231; Supplier 6: Mouser; Supplier Part Number 6: 579-MCP73811T-420IOT; Mounting Technology: Surface Mount; Code_IPC: SOT23-5; ComponentLink1Description: Manufacturer URL; ComponentLink1URL: http://www.microchip.com/; ComponentLink2Description: Datasheet; ComponentLink2URL: http://ww1.microchip.com/downloads/en/DeviceDoc/22036b.pdf; ComponentLink3Description: Package Specification; ComponentLink3URL: http://www.microchip.com/stellent/groups/techpub_sg/documents/packagingspec/en012702.pdf
footprint SOT-23-OT5_N (SOT23, 5-Leads, Body 2.9x1.6mm, Pitch 0.95mm, Lead Span 2.7mm, IPC Medium Density)
footprint SOT-23-OT5_L (SOT23, 5-Leads, Body 2.9x1.6mm, Pitch 0.95mm, Lead Span 2.7mm, IPC High Density)
footprint SOT-23-OT5_M (SOT23, 5-Leads, Body 2.9x1.6mm, Pitch 0.95mm, Lead Span 2.7mm, IPC Low Density)
pins: 1 CE (in), 2 VSS (power), 3 VBAT (power), 4 VDD (power), 5 PROG (in)

## MCP73812T-420I/OT
designator U?
Simple, Miniature Single-Cell, Fully Integrated Li-Ion/Li-Polymer Charge Management Controller, 4.2V, 5-Pin SOT-23, Industrial Temperature, Tape and Reel; Manufacturer: Microchip; PartNumber: MCP73812T-420I/OT; DatasheetVersion: revB, Sep-2007; PackageVersion: revBB, Aug-2009; PackageReference: SOT-23-OT5; PackageDescription: 5-Lead Plastic Small Outline Transistor (OT) [SOT-23]; Supplier 1: Digi-Key; Supplier Part Number 1: MCP73812T-420I/OTTR-ND; Supplier 2: Digi-Key; Supplier Part Number 2: MCP73812T-420I/OTCT-ND; Supplier 3: Digi-Key; Supplier Part Number 3: MCP73812T-420I/OTDKR-ND; Supplier 4: Farnell; Supplier Part Number 4: 1627187RL; Supplier 5: Farnell; Supplier Part Number 5: 1627187; Supplier 6: Newark; Supplier Part Number 6: 27M0232; Supplier 7: Mouser; Supplier Part Number 7: 579-MCP73812T-420IOT; Mounting Technology: Surface Mount; Code_IPC: SOT23-5; ComponentLink1Description: Manufacturer URL; ComponentLink1URL: http://www.microchip.com/; ComponentLink2Description: Datasheet; ComponentLink2URL: http://ww1.microchip.com/downloads/en/DeviceDoc/22036b.pdf; ComponentLink3Description: Package Specification; ComponentLink3URL: http://www.microchip.com/stellent/groups/techpub_sg/documents/packagingspec/en012702.pdf
footprint SOT-23-OT5_N (SOT23, 5-Leads, Body 2.9x1.6mm, Pitch 0.95mm, Lead Span 2.7mm, IPC Medium Density)
footprint SOT-23-OT5_L (SOT23, 5-Leads, Body 2.9x1.6mm, Pitch 0.95mm, Lead Span 2.7mm, IPC High Density)
footprint SOT-23-OT5_M (SOT23, 5-Leads, Body 2.9x1.6mm, Pitch 0.95mm, Lead Span 2.7mm, IPC Low Density)
pins: 1 CE (in), 2 VSS (power), 3 VBAT (power), 4 VDD (power), 5 PROG (in)

## MCP73812T-435I/OT
designator U?
Simple, Miniature Single-Cell, Fully Integrated Li-Ion / Li-Polymer Charge Management Controller, 1% Voltage Regulation Accuracy, 3.75 to 6 V Vcc, -40 to 85 degC, 5-pin SOT-23 (OT5), Tape and Reel; Manufacturer: Microchip; PartNumber: MCP73812T-435I/OT; DatasheetVersion: Rev. B; PackageVersion: C04-091B; PackageReference: SOT-23-OT5; PackageDescription: 5-Lead Plastic Small Outline Transistor, 2.9 x 1.55 mm Body, 0.95 mm Pitch; Mounting Technology: Surface Mount; ComponentLink1Description: Manufacturer URL; ComponentLink1URL: http://www.microchip.com; ComponentLink2Description: Datasheet; ComponentLink2URL: http://ww1.microchip.com/downloads/en/DeviceDoc/22036b.pdf; ComponentLink3Description: Package Specification; ComponentLink3URL: http://www.microchip.com/stellent/groups/techpub_sg/documents/packagingspec/en012702.pdf; ComponentLink4Description: Product URL; ComponentLink4URL: http://www.microchip.com/MCP73812
footprint MCHP-SOT-23-OT5_N (SOT23, 5-Leads, Body 2.9x1.55mm, Pitch 0.95mm, IPC Medium Density)
footprint MCHP-SOT-23-OT5_L (SOT23, 5-Leads, Body 2.9x1.55mm, Pitch 0.95mm, IPC High Density)
footprint MCHP-SOT-23-OT5_M (SOT23, 5-Leads, Body 2.9x1.55mm, Pitch 0.95mm, IPC Low Density)
pins: 1 CE (in) "Active High Charge Enable", 2 VSS (power) "Battery Management 0V Reference", 3 VBAT (power) "Battery Charge Control Output", 4 VDD (power) "Battery Management Input Supply", 5 PROG (in) "Current Regulation Set and Charge Control Enable"

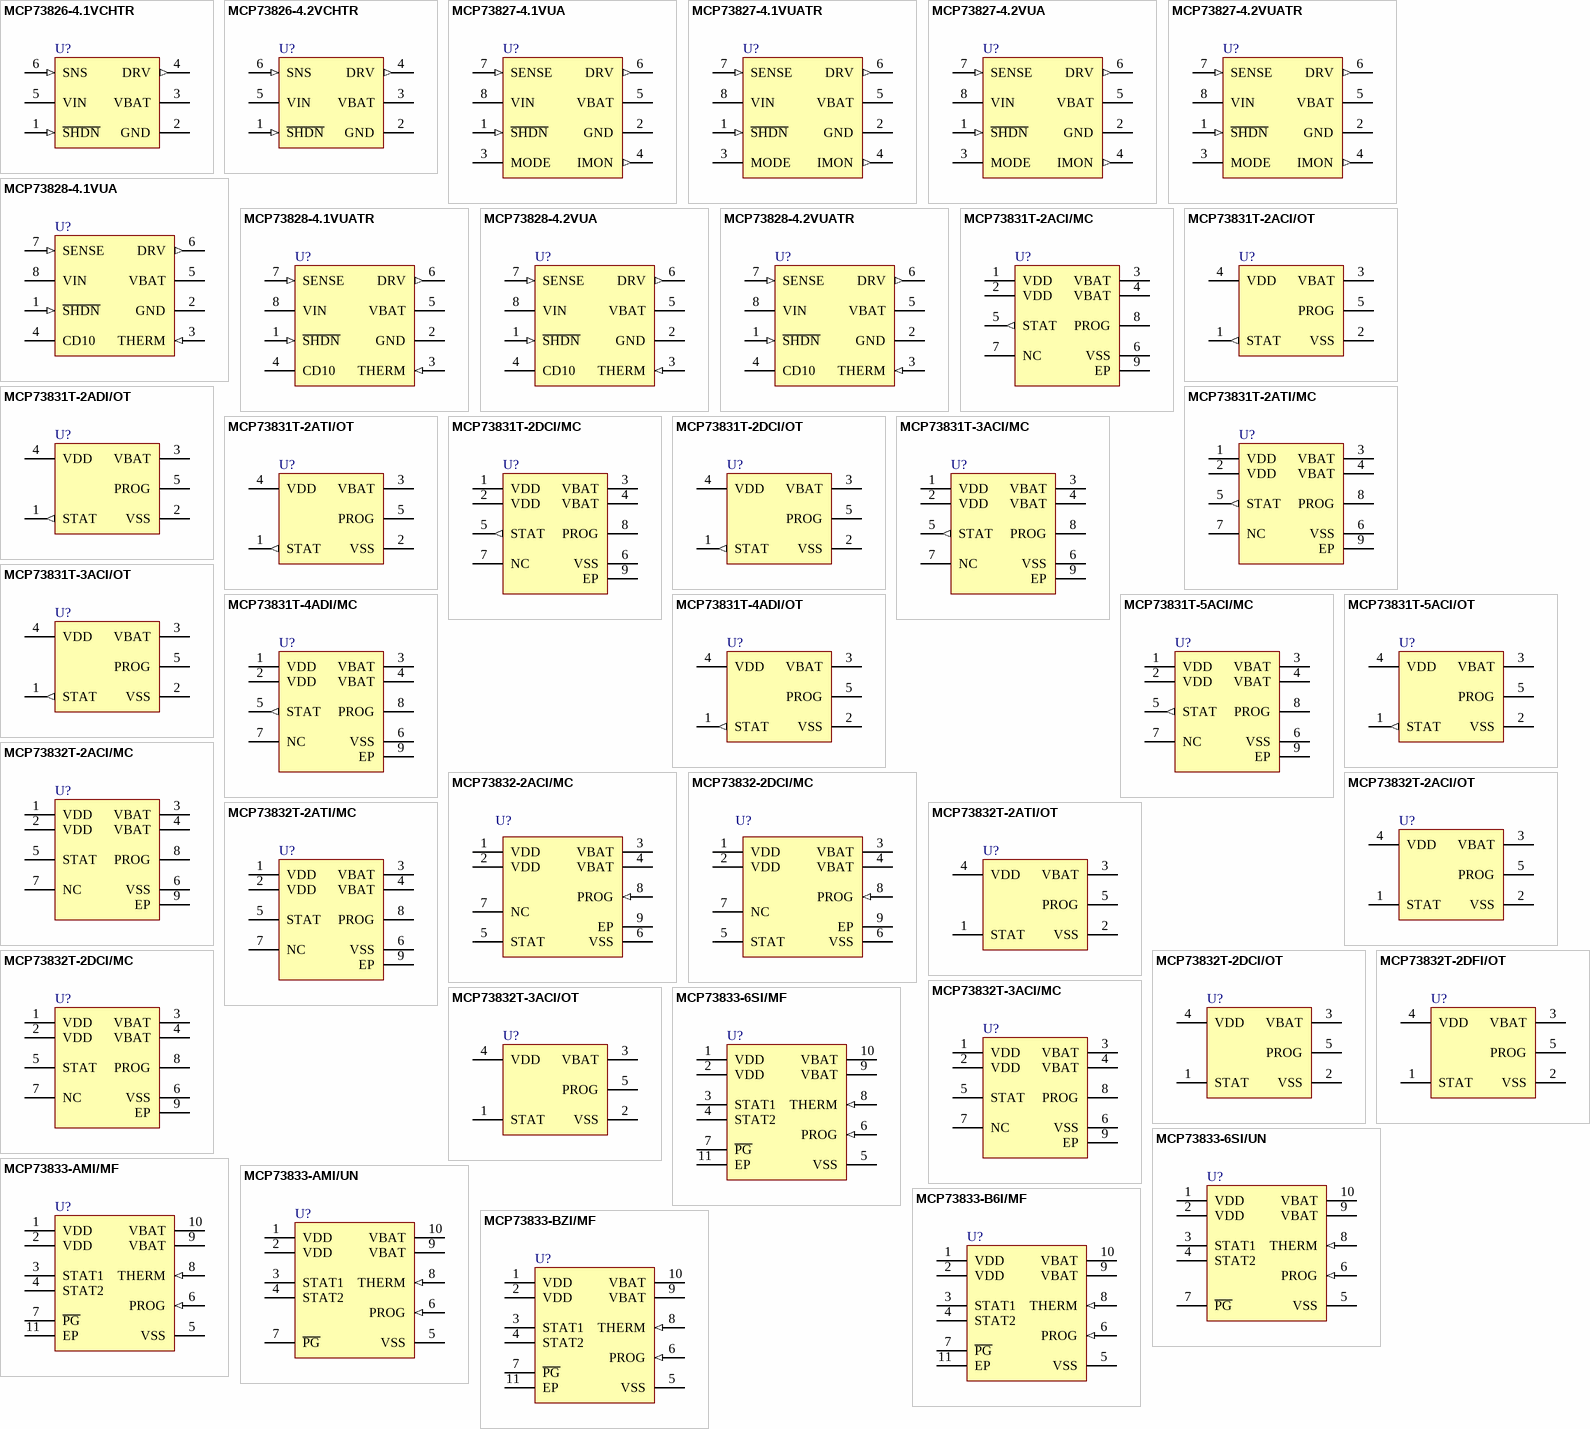
[diagram p1: symbols MCP73826-4.1VCHTR to MCP73833-BZI/MF]

## MCP73826-4.1VCHTR
designator U?
Single Cell Li-Ion Charge Management Controller, 4.1V, 6-Pin SOT-23, Industrial Temperature, Tape and Reel; Manufacturer: Microchip; PartNumber: MCP73826-4.1VCHTR; DatasheetVersion: revA, Feb-2003; PackageVersion: revBB, Aug-2009; PackageReference: SOT-23-CH6; PackageDescription: 6-Lead Plastic Small Outline Transistor (CH) [SOT-23]; Supplier 1: Digi-Key; Supplier Part Number 1: MCP73826-4.1VCHTR-ND; Supplier 2: Mouser; Supplier Part Number 2: 579-MCP738264.1VCHTR; Mounting Technology: Surface Mount; Code_IPC: SOT26A-6; ComponentLink1Description: Manufacturer URL; ComponentLink1URL: http://www.microchip.com/; ComponentLink2Description: Datasheet; ComponentLink2URL: http://ww1.microchip.com/downloads/en/DeviceDoc/21705a.pdf; ComponentLink3Description: Package Specification; ComponentLink3URL: http://www.microchip.com/stellent/groups/techpub_sg/documents/packagingspec/en012702.pdf
footprint SOT-23-CH6_N (SOT23, 6-Leads, Body 2.9x1.6mm, Pitch 0.95mm, Lead Span 2.7mm, IPC Medium Density)
footprint SOT-23-CH6_L (SOT23, 6-Leads, Body 2.9x1.6mm, Pitch 0.95mm, Lead Span 2.7mm, IPC High Density)
footprint SOT-23-CH6_M (SOT23, 6-Leads, Body 2.9x1.6mm, Pitch 0.95mm, Lead Span 2.7mm, IPC Low Density)
pins: 1 ~{SHDN} (in), 2 GND (power), 3 VBAT (power), 4 DRV (out), 5 VIN (power), 6 SNS (in)